# EAGLE library part HDR2X6-F (library Cynara-Connectors)
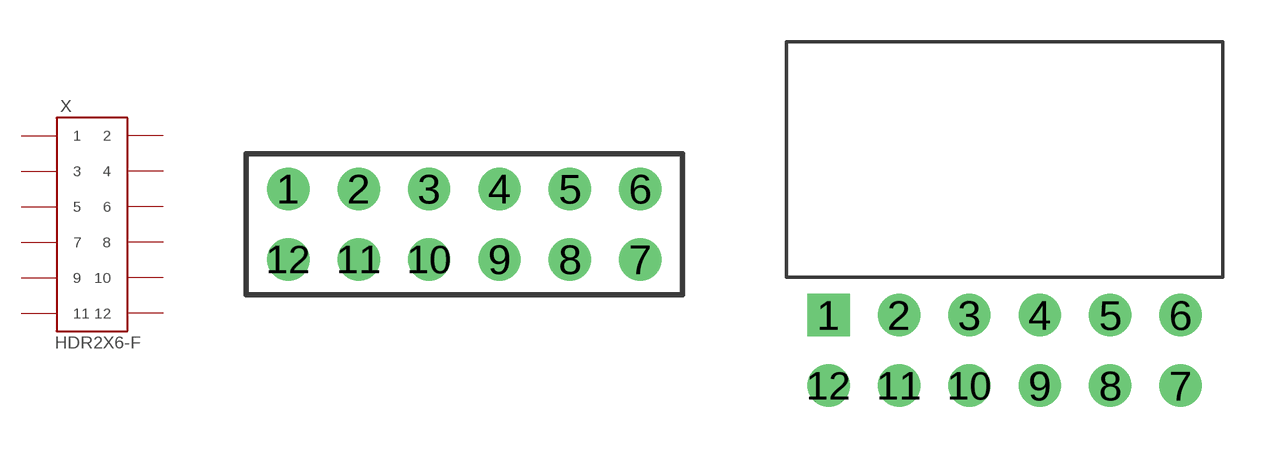
[diagram p9: symbol with the pads of 61301221821; footprints 61301221821, 613012243121]

Designator prefix X

## HDR2X6-F-VERT (MANUFACTURER: Wurth; MANUFACTURERPARTNO: 61301221821; VALUE: SOCK2X6)  [61301221821]
1  1  pas
2  2  pas
3  3  pas
4  4  pas
5  5  pas
6  6  pas
7  7  pas
8  8  pas
9  9  pas
10  10  pas
11  11  pas
12  12  pas

## HDR2X6-F-RA (MANUFACTURER: WURTH; MANUFACTURERPARTNO: 613012243121; VALUE: SOCK2X6 RA)  [613012243121]
Pads as for 61301221821

## Footprint 61301221821 (pad centres in mm)
WR-PHD 2.54mm Dual Socket Header, 12 Pins
drill 1.02: 1 -6.35,1.27; 2 -3.81,1.27; 3 -1.27,1.27; 4 1.27,1.27; 5 3.81,1.27; 6 6.35,1.27; 7 6.35,-1.27; 8 3.81,-1.27; 9 1.27,-1.27; 10 -1.27,-1.27; 11 -3.81,-1.27; 12 -6.35,-1.27

## Footprint 613012243121 (pad centres in mm)
WR-PHD Angled Dual Socket Header, 12 Pins
drill 1.02 square: 1 -6.35,0
drill 1.02: 2 -3.81,0; 3 -1.27,0; 4 1.27,0; 5 3.81,0; 6 6.35,0; 7 6.35,-2.54; 8 3.81,-2.54; 9 1.27,-2.54; 10 -1.27,-2.54; 11 -3.81,-2.54; 12 -6.35,-2.54